# EAGLE library part MC14060BCPG (library ON Semiconductor_By_element14_Batch_1)
14-Bit Binary Counter
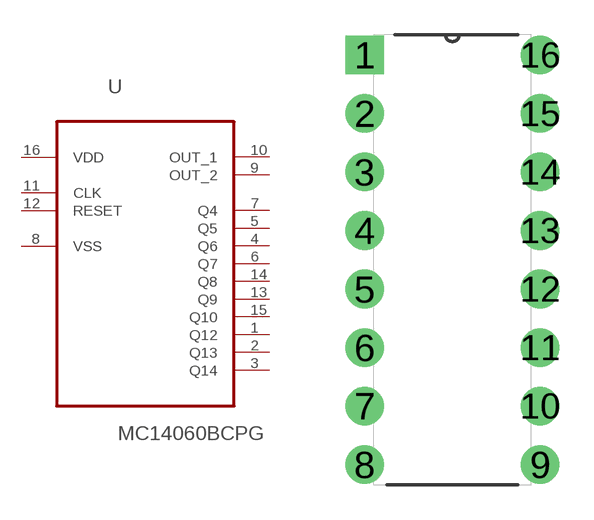
[diagram p247: symbol with the pads of DIP254P762X444-16; footprint DIP254P762X444-16]

Designator prefix U

## MC14060BCPG (MPN: MC14060BCPG; OC_FARNELL: 9665560; OC_NEWARK: 45J1065; P1I: o; PACKAGE: PDIP-16; SUPPLIER: On semiconductors)  [DIP254P762X444-16]
1  Q12  out
2  Q13  out
3  Q14  out
4  Q6  out
5  Q5  out
6  Q7  out
7  Q4  out
8  VSS  pwr
9  OUT_2  out
10  OUT_1  out
11  CLK  in
12  RESET  in
13  Q9  out
14  Q8  out
15  Q10  out
16  VDD  pwr

## Footprint DIP254P762X444-16 (pad centres in mm)
drill 1.118 square: 1 -7.62,17.78
drill 1.118: 2 -7.62,15.24; 3 -7.62,12.7; 4 -7.62,10.16; 5 -7.62,7.62; 6 -7.62,5.08; 7 -7.62,2.54; 8 -7.62,0; 9 0,0; 10 0,2.54; 11 0,5.08; 12 0,7.62; 13 0,10.16; 14 0,12.7; 15 0,15.24; 16 0,17.78